# EAGLE library part TBD62783A (library Toshiba TBD6x783A)
8channel source type DMOS transistor array TBD62783A series are DMOS transistor array with 8 circuits. It has a clamp diode for switching inductive loads built-in in each output. Please be careful about thermal conditions during use. Features 8 circuits built-in High voltage: VOUT = 50 V (MAX) High current: IOUT = -500 mA/ch (MAX) Input voltage (output on): 2.0 V (MIN) Input voltage (output off): 0.6 V (MAX) TBD62084A series 1.0 V (MAX) Package: PG type P-DIP18-300-2.54-001 FG type SOP18-P-375-1.27 FNG type SSOP18-P-225-0.65 FWG type P-SOP18-0812-1.27-001
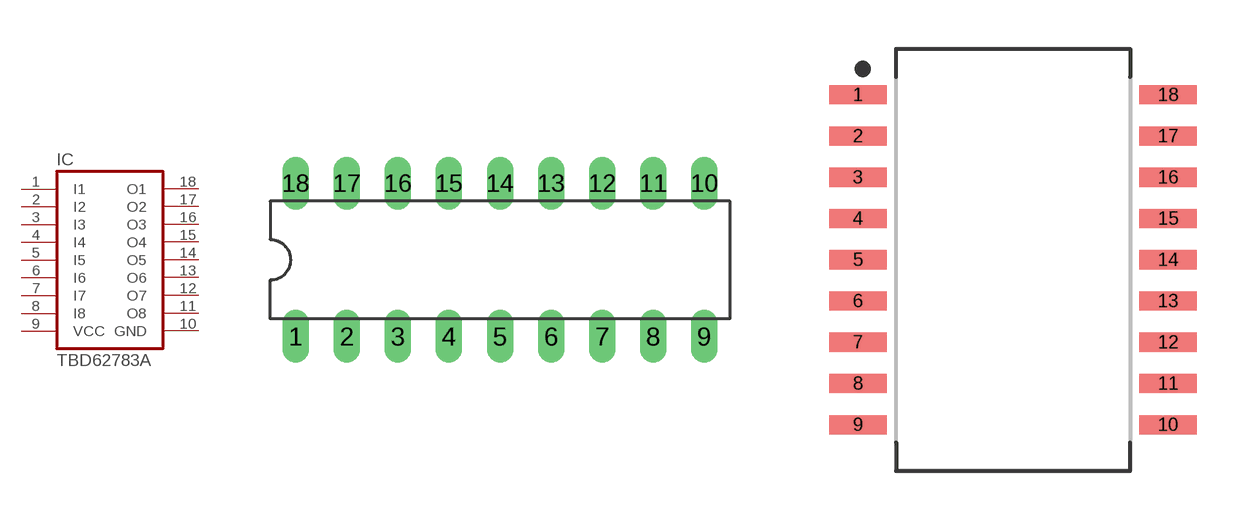
[diagram p1: symbol with the pads of DIL18; footprints DIL18, SOIC127P1030X245-18N]

Designator prefix IC

## TBD62783APG  [DIL18]
1  I1  in
2  I2  in
3  I3  in
4  I4  in
5  I5  in
6  I6  in
7  I7  in
8  I8  in
9  VCC  pwr
10  GND  pas
11  O8  oc
12  O7  oc
13  O6  oc
14  O5  oc
15  O4  oc
16  O3  oc
17  O2  oc
18  O1  oc

## TBD62783AFG  [SOIC127P1030X245-18N]
Pads as for DIL18

## TBD62783AFNG  [SOP65P640X155-18N]
Pads as for DIL18

## TBD62783AFW  [SOIC127P1032X285-18N]
Pads as for DIL18

## Footprint DIL18 (pad centres in mm)
Dual In Line Package
drill 0.813 long: 1 -10.16,-3.81; 2 -7.62,-3.81; 3 -5.08,-3.81; 4 -2.54,-3.81; 5 0,-3.81; 6 2.54,-3.81; 7 5.08,-3.81; 8 7.62,-3.81; 9 10.16,-3.81; 10 10.16,3.81; 11 7.62,3.81; 12 5.08,3.81; 13 2.54,3.81; 14 0,3.81; 15 -2.54,3.81; 16 -5.08,3.81; 17 -7.62,3.81; 18 -10.16,3.81

## Footprint SOIC127P1030X245-18N (pad centres in mm)
18-SOIC, 1.27 mm pitch, 10.30 mm span, 12.80 X 7.00 X 2.45 mm body 18-pin SOIC package with 1.27 mm pitch, 10.30 mm span with body size 12.80 X 7.00 X 2.45 mm
smd 1.765 x 0.589: 1 -4.773,5.08; 2 -4.773,3.81; 3 -4.773,2.54; 4 -4.773,1.27; 5 -4.773,0; 6 -4.773,-1.27; 7 -4.773,-2.54; 8 -4.773,-3.81; 9 -4.773,-5.08; 10 4.773,-5.08; 11 4.773,-3.81; 12 4.773,-2.54; 13 4.773,-1.27; 14 4.773,0; 15 4.773,1.27; 16 4.773,2.54; 17 4.773,3.81; 18 4.773,5.08

## Footprint SOP65P640X155-18N (pad centres in mm)
18-SOP, 0.65 mm pitch, 6.40 mm span, 6.60 X 4.40 X 1.55 mm body 18-pin SOP package with 0.65 mm pitch, 6.40 mm span with body size 6.60 X 4.40 X 1.55 mm
smd 1.366 x 0.415: 1 -2.974,2.6; 2 -2.974,1.95; 3 -2.974,1.3; 4 -2.974,0.65; 5 -2.974,0; 6 -2.974,-0.65; 7 -2.974,-1.3; 8 -2.974,-1.95; 9 -2.974,-2.6; 10 2.974,-2.6; 11 2.974,-1.95; 12 2.974,-1.3; 13 2.974,-0.65; 14 2.974,0; 15 2.974,0.65; 16 2.974,1.3; 17 2.974,1.95; 18 2.974,2.6

## Footprint SOIC127P1032X285-18N (pad centres in mm)
18-SOIC, 1.27 mm pitch, 10.32 mm span, 11.52 X 7.50 X 2.85 mm body 18-pin SOIC package with 1.27 mm pitch, 10.32 mm span with body size 11.52 X 7.50 X 2.85 mm
smd 1.906 x 0.607: 1 -4.722,5.08; 2 -4.722,3.81; 3 -4.722,2.54; 4 -4.722,1.27; 5 -4.722,0; 6 -4.722,-1.27; 7 -4.722,-2.54; 8 -4.722,-3.81; 9 -4.722,-5.08; 10 4.722,-5.08; 11 4.722,-3.81; 12 4.722,-2.54; 13 4.722,-1.27; 14 4.722,0; 15 4.722,1.27; 16 4.722,2.54; 17 4.722,3.81; 18 4.722,5.08